# EAGLE library part DSPIC33FJ12GP201 (library @Club_Microchip_divers-)
dsPIC33 General DSC
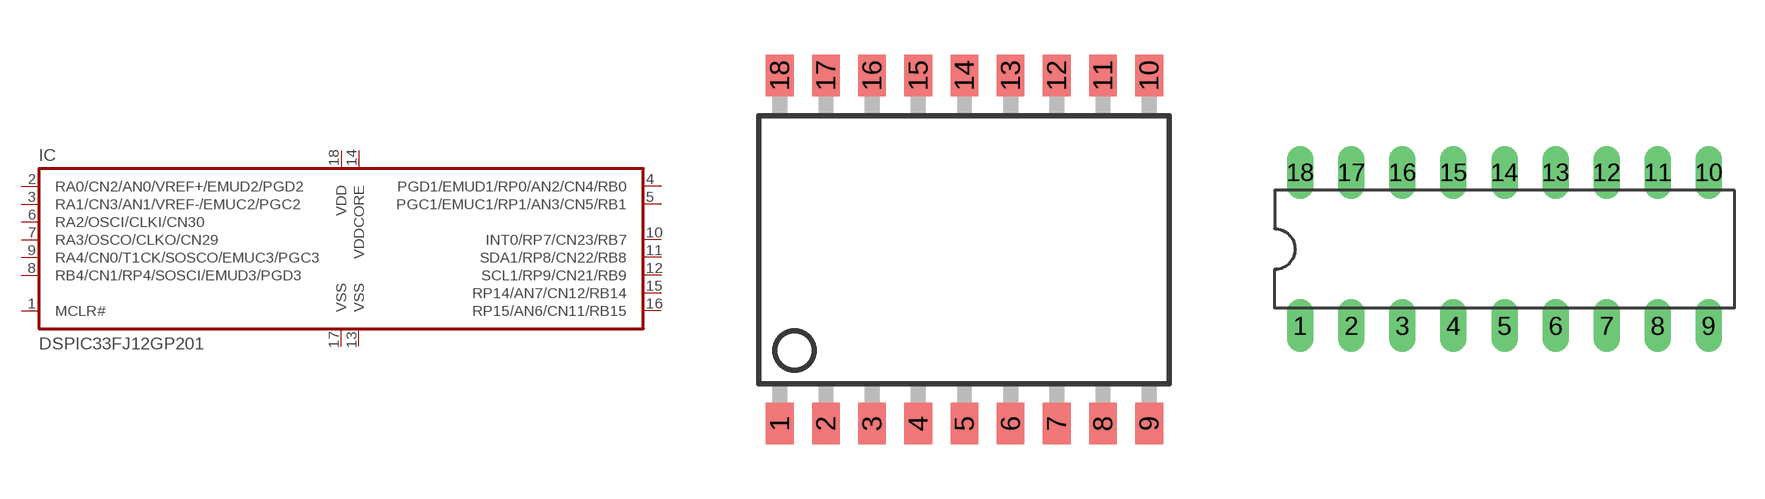
[diagram p49: symbol with the pads of SO-18W; footprints SO-18W, DIL18]

Designator prefix IC

## DSPIC33FJ12GP201/SO  [SO-18W]
1  MCLR#  in
2  RA0/CN2/AN0/VREF+/EMUD2/PGD2
3  RA1/CN3/AN1/VREF-/EMUC2/PGC2
4  PGD1/EMUD1/RP0/AN2/CN4/RB0
5  PGC1/EMUC1/RP1/AN3/CN5/RB1
6  RA2/OSCI/CLKI/CN30
7  RA3/OSCO/CLKO/CN29
8  RB4/CN1/RP4/SOSCI/EMUD3/PGD3
9  RA4/CN0/T1CK/SOSCO/EMUC3/PGC3
10  INT0/RP7/CN23/RB7
11  SDA1/RP8/CN22/RB8
12  SCL1/RP9/CN21/RB9
13  VSS  pwr
14  VDDCORE  pwr
15  RP14/AN7/CN12/RB14
16  RP15/AN6/CN11/RB15
17  VSS  pwr
18  VDD  pwr

## DSPIC33FJ12GP201/SP  [DIL18]
Pads as for SO-18W

## Footprint SO-18W (pad centres in mm)
Small Outline Wide Plastic Gull Wing 300-mil body, package type SO
smd 0.762 x 1.143: 1 -5.08,-4.788; 2 -3.81,-4.788; 3 -2.54,-4.788; 4 -1.27,-4.788; 5 0,-4.788; 6 1.27,-4.788; 7 2.54,-4.788; 8 3.81,-4.788; 9 5.08,-4.788; 10 5.08,4.788; 11 3.81,4.788; 12 2.54,4.788; 13 1.27,4.788; 14 0,4.788; 15 -1.27,4.788; 16 -2.54,4.788; 17 -3.81,4.788; 18 -5.08,4.788

## Footprint DIL18 (pad centres in mm)
Dual In Line Package
drill 0.813 long: 1 -10.16,-3.81; 2 -7.62,-3.81; 3 -5.08,-3.81; 4 -2.54,-3.81; 5 0,-3.81; 6 2.54,-3.81; 7 5.08,-3.81; 8 7.62,-3.81; 9 10.16,-3.81; 10 10.16,3.81; 11 7.62,3.81; 12 5.08,3.81; 13 2.54,3.81; 14 0,3.81; 15 -2.54,3.81; 16 -5.08,3.81; 17 -7.62,3.81; 18 -10.16,3.81